# Altium footprint library Con Rect Stag PCB.PcbLib: 59 footprints (part 4 of 4)
Each footprint in its own frame and in the unit in brackets; x right, y up, seen from the top. Pads: shape width x height; smd on the part's side, far side on the other; paste and mask are expansions set on the pad; w line width, h text height; cw(c..) or ccw(c..) is an arc to the next point about the centre after c.
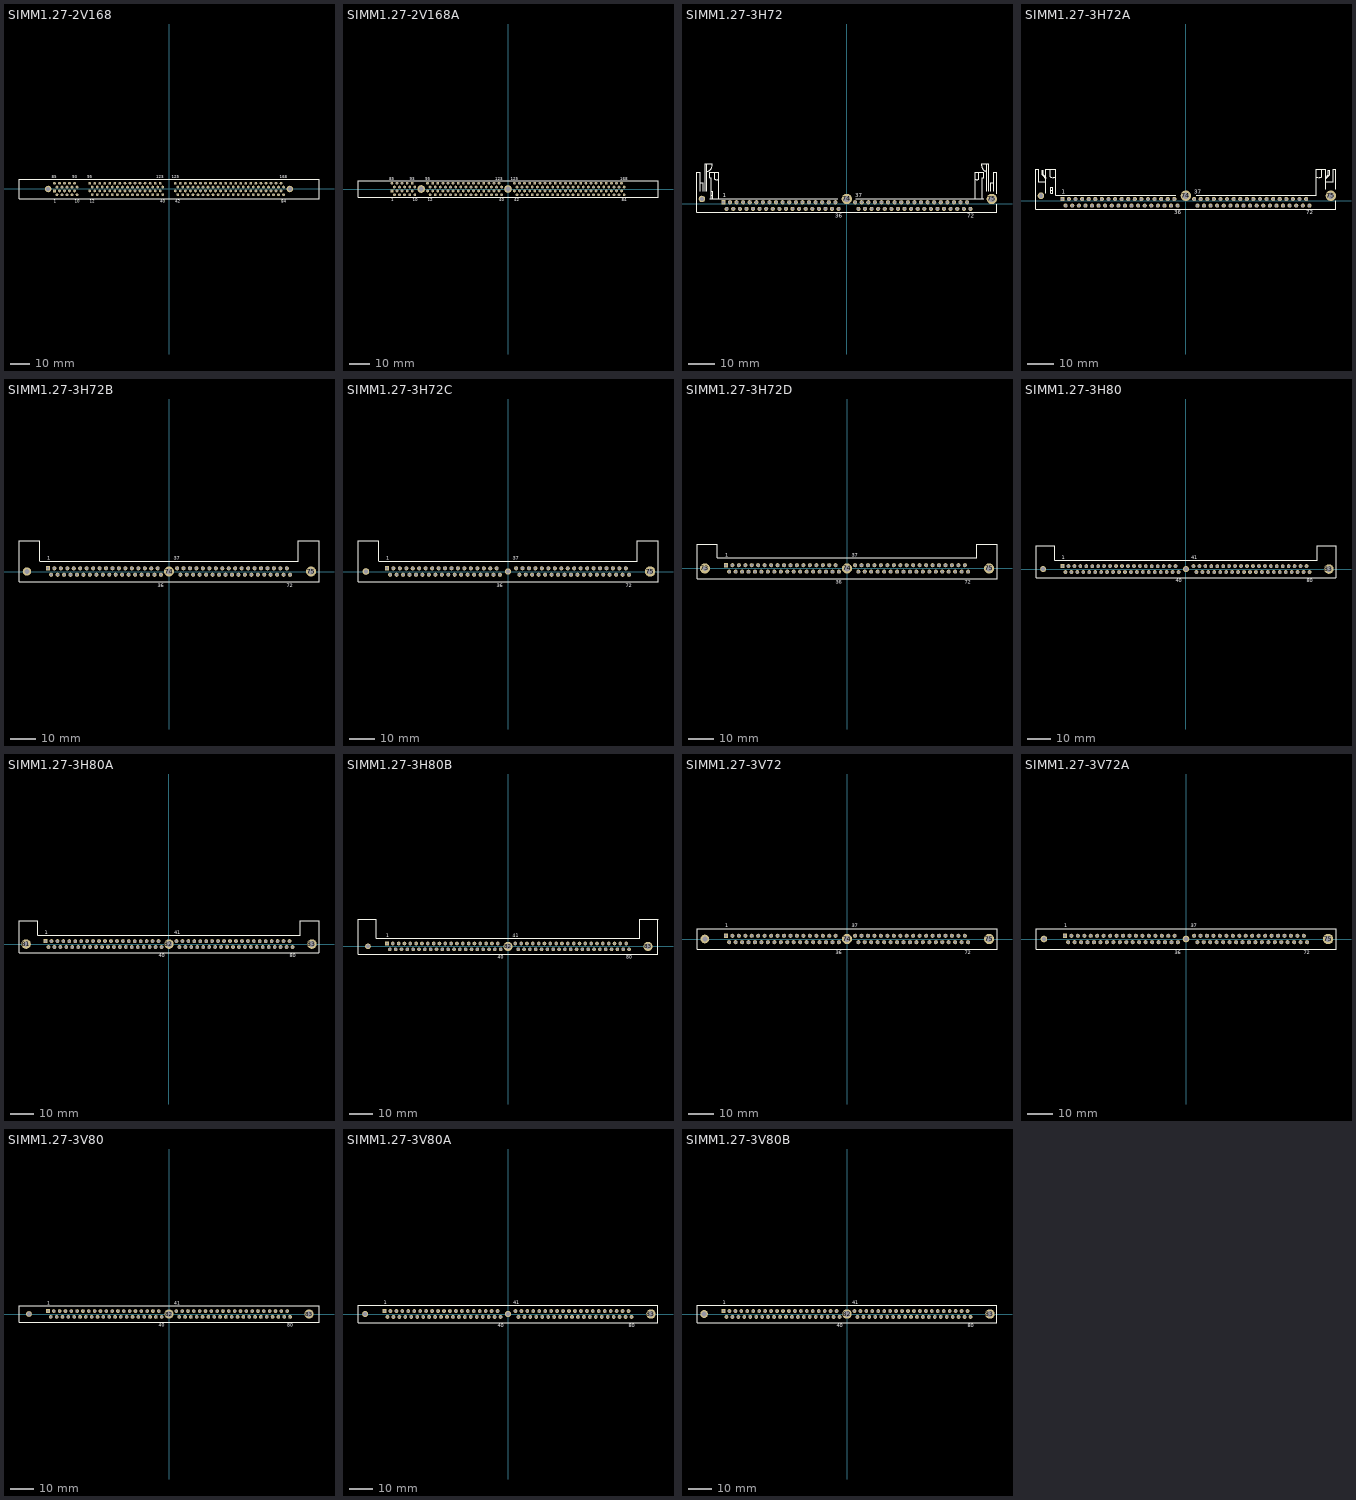
[diagram p3: the footprints below, top view; thin cyan lines are the x and y axes]

## SIMM1.27-2V168 [mm] "Connector; SIMM II; 168 Position; Vertical"
height 22.61
pads (170):
  rect 1.4x1.4 hole 0.78: 1(-57.785,-0.955)
  round 1.4 hole 0.78: 2(-56.515,-2.865) 3(-55.245,-0.955) 4(-53.975,-2.865) 5(-52.705,-0.955) 6(-51.435,-2.865) 7(-50.165,-0.955) 8(-48.895,-2.865) 9(-47.625,-0.955) 10(-46.355,-2.865) 11(-40.005,-0.955) 12(-38.735,-2.865) 13(-37.465,-0.955) 14(-36.195,-2.865) 15(-34.925,-0.955) 16(-33.655,-2.865) 17(-32.385,-0.955) 18(-31.115,-2.865) 19(-29.845,-0.955) 20(-28.575,-2.865) 21(-27.305,-0.955) 22(-26.035,-2.865) 23(-24.765,-0.955) 24(-23.495,-2.865) 25(-22.225,-0.955) 26(-20.955,-2.865) 27(-19.685,-0.955) 28(-18.415,-2.865) 29(-17.145,-0.955) 30(-15.875,-2.865) 31(-14.605,-0.955) 32(-13.335,-2.865) 33(-12.065,-0.955) 34(-10.795,-2.865) 35(-9.525,-0.955) 36(-8.255,-2.865) 37(-6.985,-0.955) 38(-5.715,-2.865) 39(-4.445,-0.955) 40(-3.175,-2.865) 41(3.175,-0.955) 42(4.445,-2.865) 43(5.715,-0.955) 44(6.985,-2.865) 45(8.255,-0.955) 46(9.525,-2.865) 47(10.795,-0.955) 48(12.065,-2.865) 49(13.335,-0.955) 50(14.605,-2.865) 51(15.875,-0.955) 52(17.145,-2.865) 53(18.415,-0.955) 54(19.685,-2.865) 55(20.955,-0.955) 56(22.225,-2.865) 57(23.495,-0.955) 58(24.765,-2.865) 59(26.035,-0.955) 60(27.305,-2.865) 61(28.575,-0.955) 62(29.845,-2.865) 63(31.115,-0.955) 64(32.385,-2.865) 65(33.655,-0.955) 66(34.925,-2.865) 67(36.195,-0.955) 68(37.465,-2.865) 69(38.735,-0.955) 70(40.005,-2.865) 71(41.275,-0.955) 72(42.545,-2.865) 73(43.815,-0.955) 74(45.085,-2.865) 75(46.355,-0.955) 76(47.625,-2.865) 77(48.895,-0.955) 78(50.165,-2.865) 79(51.435,-0.955) 80(52.705,-2.865) 81(53.975,-0.955) 82(55.245,-2.865) 83(56.515,-0.955) 84(57.785,-2.865) 85(-57.785,2.865) 86(-56.515,0.955) 87(-55.245,2.865) 88(-53.975,0.955) 89(-52.705,2.865) 90(-51.435,0.955) 91(-50.165,2.865) 92(-48.895,0.955) 93(-47.625,2.865) 94(-46.355,0.955) 95(-40.005,2.865) 96(-38.735,0.955) 97(-37.465,2.865) 98(-36.195,0.955) 99(-34.925,2.865) 100(-33.655,0.955) 101(-32.385,2.865) 102(-31.115,0.955) 103(-29.845,2.865) 104(-28.575,0.955) 105(-27.305,2.865) 106(-26.035,0.955) 107(-24.765,2.865) 108(-23.495,0.955) 109(-22.225,2.865) 110(-20.955,0.955) 111(-19.685,2.865) 112(-18.415,0.955) 113(-17.145,2.865) 114(-15.875,0.955) 115(-14.605,2.865) 116(-13.335,0.955) 117(-12.065,2.865) 118(-10.795,0.955) 119(-9.525,2.865) 120(-8.255,0.955) 121(-6.985,2.865) 122(-5.715,0.955) 123(-4.445,2.865) 124(-3.175,0.955) 125(3.175,2.865) 126(4.445,0.955) 127(5.715,2.865) 128(6.985,0.955) 129(8.255,2.865) 130(9.525,0.955) 131(10.795,2.865) 132(12.065,0.955) 133(13.335,2.865) 134(14.605,0.955) 135(15.875,2.865) 136(17.145,0.955) 137(18.415,2.865) 138(19.685,0.955) 139(20.955,2.865) 140(22.225,0.955) 141(23.495,2.865) 142(24.765,0.955) 143(26.035,2.865) 144(27.305,0.955) 145(28.575,2.865) 146(29.845,0.955) 147(31.115,2.865) 148(32.385,0.955) 149(33.655,2.865) 150(34.925,0.955) 151(36.195,2.865) 152(37.465,0.955) 153(38.735,2.865) 154(40.005,0.955) 155(41.275,2.865) 156(42.545,0.955) 157(43.815,2.865) 158(45.085,0.955) 159(46.355,2.865) 160(47.625,0.955) 161(48.895,2.865) 162(50.165,0.955) 163(51.435,2.865) 164(52.705,0.955) 165(53.975,2.865) 166(55.245,0.955) 167(56.515,2.865) 168(57.785,0.955)
  round 3.3 hole 2.03: 169(-60.955,-0.005) 170(60.955,-0.005)
Top Overlay:
  lines w0.2: -75.65,-5.005 -75.65,4.995 75.65,4.995 75.65,-5.005 -75.65,-5.005
  text "1" at -58.035,-6.98 h1.5
  text "85" at -59.035,5.47 h1.5
  text "10" at -47.48,-6.98 h1.5
  text "12" at -39.86,-6.98 h1.5
  text "95" at -41.255,5.47 h1.5
  text "40" at -4.425,-6.98 h1.5
  text "123" at -6.32,5.47 h1.5
  text "42" at 3.195,-6.98 h1.5
  text "125" at 1.3,5.47 h1.5
  text "84" at 56.535,-6.98 h1.5
  text "168" at 55.91,5.47 h1.5
  text "93" at -48.875,5.47 h1.5

## SIMM1.27-2V168A [mm] "Connector; SIMM II; 168 Position; Vertical"
height 12.78
pads (170):
  rect 1.4x1.4 hole 0.81: 1(-57.785,-0.955)
  round 1.4 hole 0.81: 2(-56.515,-2.865) 3(-55.245,-0.955) 4(-53.975,-2.865) 5(-52.705,-0.955) 6(-51.435,-2.865) 7(-50.165,-0.955) 8(-48.895,-2.865) 9(-47.625,-0.955) 10(-46.355,-2.865) 11(-40.005,-0.955) 12(-38.735,-2.865) 13(-37.465,-0.955) 14(-36.195,-2.865) 15(-34.925,-0.955) 16(-33.655,-2.865) 17(-32.385,-0.955) 18(-31.115,-2.865) 19(-29.845,-0.955) 20(-28.575,-2.865) 21(-27.305,-0.955) 22(-26.035,-2.865) 23(-24.765,-0.955) 24(-23.495,-2.865) 25(-22.225,-0.955) 26(-20.955,-2.865) 27(-19.685,-0.955) 28(-18.415,-2.865) 29(-17.145,-0.955) 30(-15.875,-2.865) 31(-14.605,-0.955) 32(-13.335,-2.865) 33(-12.065,-0.955) 34(-10.795,-2.865) 35(-9.525,-0.955) 36(-8.255,-2.865) 37(-6.985,-0.955) 38(-5.715,-2.865) 39(-4.445,-0.955) 40(-3.175,-2.865) 41(3.175,-0.955) 42(4.445,-2.865) 43(5.715,-0.955) 44(6.985,-2.865) 45(8.255,-0.955) 46(9.525,-2.865) 47(10.795,-0.955) 48(12.065,-2.865) 49(13.335,-0.955) 50(14.605,-2.865) 51(15.875,-0.955) 52(17.145,-2.865) 53(18.415,-0.955) 54(19.685,-2.865) 55(20.955,-0.955) 56(22.225,-2.865) 57(23.495,-0.955) 58(24.765,-2.865) 59(26.035,-0.955) 60(27.305,-2.865) 61(28.575,-0.955) 62(29.845,-2.865) 63(31.115,-0.955) 64(32.385,-2.865) 65(33.655,-0.955) 66(34.925,-2.865) 67(36.195,-0.955) 68(37.465,-2.865) 69(38.735,-0.955) 70(40.005,-2.865) 71(41.275,-0.955) 72(42.545,-2.865) 73(43.815,-0.955) 74(45.085,-2.865) 75(46.355,-0.955) 76(47.625,-2.865) 77(48.895,-0.955) 78(50.165,-2.865) 79(51.435,-0.955) 80(52.705,-2.865) 81(53.975,-0.955) 82(55.245,-2.865) 83(56.515,-0.955) 84(57.785,-2.865) 85(-57.785,2.865) 86(-56.515,0.955) 87(-55.245,2.865) 88(-53.975,0.955) 89(-52.705,2.865) 90(-51.435,0.955) 91(-50.165,2.865) 92(-48.895,0.955) 93(-47.625,2.865) 94(-46.355,0.955) 95(-40.005,2.865) 96(-38.735,0.955) 97(-37.465,2.865) 98(-36.195,0.955) 99(-34.925,2.865) 100(-33.655,0.955) 101(-32.385,2.865) 102(-31.115,0.955) 103(-29.845,2.865) 104(-28.575,0.955) 105(-27.305,2.865) 106(-26.035,0.955) 107(-24.765,2.865) 108(-23.495,0.955) 109(-22.225,2.865) 110(-20.955,0.955) 111(-19.685,2.865) 112(-18.415,0.955) 113(-17.145,2.865) 114(-15.875,0.955) 115(-14.605,2.865) 116(-13.335,0.955) 117(-12.065,2.865) 118(-10.795,0.955) 119(-9.525,2.865) 120(-8.255,0.955) 121(-6.985,2.865) 122(-5.715,0.955) 123(-4.445,2.865) 124(-3.175,0.955) 125(3.175,2.865) 126(4.445,0.955) 127(5.715,2.865) 128(6.985,0.955) 129(8.255,2.865) 130(9.525,0.955) 131(10.795,2.865) 132(12.065,0.955) 133(13.335,2.865) 134(14.605,0.955) 135(15.875,2.865) 136(17.145,0.955) 137(18.415,2.865) 138(19.685,0.955) 139(20.955,2.865) 140(22.225,0.955) 141(23.495,2.865) 142(24.765,0.955) 143(26.035,2.865) 144(27.305,0.955) 145(28.575,2.865) 146(29.845,0.955) 147(31.115,2.865) 148(32.385,0.955) 149(33.655,2.865) 150(34.925,0.955) 151(36.195,2.865) 152(37.465,0.955) 153(38.735,2.865) 154(40.005,0.955) 155(41.275,2.865) 156(42.545,0.955) 157(43.815,2.865) 158(45.085,0.955) 159(46.355,2.865) 160(47.625,0.955) 161(48.895,2.865) 162(50.165,0.955) 163(51.435,2.865) 164(52.705,0.955) 165(53.975,2.865) 166(55.245,0.955) 167(56.515,2.865) 168(57.785,0.955)
  round 3.8 hole 2.36: 169(-43.18,0) 170(0,0)
Top Overlay:
  lines w0.2: -74.625,-4 -74.625,4 74.625,4 74.625,-4 -74.625,-4
  text "1" at -58.035,-5.975 h1.5
  text "85" at -59.035,4.475 h1.5
  text "10" at -47.48,-5.975 h1.5
  text "93" at -48.875,4.475 h1.5
  text "12" at -39.86,-5.975 h1.5
  text "95" at -41.255,4.475 h1.5
  text "40" at -4.425,-5.975 h1.5
  text "123" at -6.32,4.475 h1.5
  text "125" at 1.3,4.475 h1.5
  text "42" at 3.195,-5.975 h1.5
  text "84" at 56.535,-5.975 h1.5
  text "168" at 55.91,4.475 h1.5

## SIMM1.27-3H72 [mm] "Connector; SIMM II; 72 Position; Right Angle"
height 8.39
pads (75):
  rect 1.6x1.6 hole 0.99: 1(-47.62,0.635)
  round 1.6 hole 0.99: 2(-46.35,-1.905) 3(-45.08,0.635) 4(-43.81,-1.905) 5(-42.54,0.635) 6(-41.27,-1.905) 7(-40,0.635) 8(-38.73,-1.905) 9(-37.46,0.635) 10(-36.19,-1.905) 11(-34.92,0.635) 12(-33.65,-1.905) 13(-32.38,0.635) 14(-31.11,-1.905) 15(-29.84,0.635) 16(-28.57,-1.905) 17(-27.3,0.635) 18(-26.03,-1.905) 19(-24.76,0.635) 20(-23.49,-1.905) 21(-22.22,0.635) 22(-20.95,-1.905) 23(-19.68,0.635) 24(-18.41,-1.905) 25(-17.14,0.635) 26(-15.87,-1.905) 27(-14.6,0.635) 28(-13.33,-1.905) 29(-12.06,0.635) 30(-10.79,-1.905) 31(-9.52,0.635) 32(-8.25,-1.905) 33(-6.98,0.635) 34(-5.71,-1.905) 35(-4.44,0.635) 36(-3.17,-1.905) 37(3.18,0.635) 38(4.45,-1.905) 39(5.72,0.635) 40(6.99,-1.905) 41(8.26,0.635) 42(9.53,-1.905) 43(10.8,0.635) 44(12.07,-1.905) 45(13.34,0.635) 46(14.61,-1.905) 47(15.88,0.635) 48(17.15,-1.905) 49(18.42,0.635) 50(19.69,-1.905) 51(20.96,0.635) 52(22.23,-1.905) 53(23.5,0.635) 54(24.77,-1.905) 55(26.04,0.635) 56(27.31,-1.905) 57(28.58,0.635) 58(29.85,-1.905) 59(31.12,0.635) 60(32.39,-1.905) 61(33.66,0.635) 62(34.93,-1.905) 63(36.2,0.635) 64(37.47,-1.905) 65(38.74,0.635) 66(40.01,-1.905) 67(41.28,0.635) 68(42.55,-1.905) 69(43.82,0.635) 70(45.09,-1.905) 71(46.36,0.635) 72(47.63,-1.905)
  round 2.5 hole 1.58: 73(-55.88,1.905)
  round 4 hole 2.44: 74(0,1.905) 75(55.88,1.905)
Top Overlay:
  lines w0.2: -56.585,4.815 -56.585,12.115 -57.785,12.115 -57.785,-3.305 57.785,-3.305 57.785,-0.215 ; -56.585,8.115 -55.385,8.115 -55.385,4.815 ; -54.685,4.815 -54.685,15.475 -51.985,15.475 -51.985,14.675 ; -53.985,4.815 -53.985,15.475 ; -53.985,12.575 ccw(c-54.085,14.675) -51.983,14.675 ; -52.785,2.035 -3.5,2.035 ; -52.285,2.035 -52.285,10.175 -52.785,10.175 -52.785,12.115 -49.485,12.115 -49.485,2.035 ; -52.285,3.415 -51.785,3.415 ; -52.285,4.815 -51.785,4.815 -51.785,2.035 ; -50.885,12.115 -50.885,9.515 ccw(c-50.185,10.915) -49.485,9.515 ; 3.5,2.035 52.785,2.035 ; 49.485,2.035 49.485,12.115 52.785,12.115 52.785,10.175 52.285,10.175 52.285,2.035 ; 49.485,9.515 ccw(c50.185,10.915) 50.885,9.515 50.885,12.115 ; 51.983,14.675 ccw(c54.085,14.675) 53.985,12.575 ; 51.985,14.675 51.985,15.475 54.685,15.475 54.685,4.815 ; 53.985,4.815 53.985,15.475 ; 55.385,4.815 55.385,8.115 56.585,8.115 ; 56.585,4.815 56.585,12.115 57.785,12.115 57.785,4
  text "1" at -47.87,2.51 h1.5
  text "37" at 3.18,2.51 h1.5
  text "72" at 46.38,-5.28 h1.5
  text "36" at -4.42,-5.28 h1.5

## SIMM1.27-3H72A [mm] "Connector; SIMM II; 72 Position; Right Angle"
height 9.27
pads (75):
  rect 1.6x1.6 hole 0.99: 1(-47.625,0.635)
  round 1.6 hole 0.99: 2(-46.355,-1.905) 3(-45.085,0.635) 4(-43.815,-1.905) 5(-42.545,0.635) 6(-41.275,-1.905) 7(-40.005,0.635) 8(-38.735,-1.905) 9(-37.465,0.635) 10(-36.195,-1.905) 11(-34.925,0.635) 12(-33.655,-1.905) 13(-32.385,0.635) 14(-31.115,-1.905) 15(-29.845,0.635) 16(-28.575,-1.905) 17(-27.305,0.635) 18(-26.035,-1.905) 19(-24.765,0.635) 20(-23.495,-1.905) 21(-22.225,0.635) 22(-20.955,-1.905) 23(-19.685,0.635) 24(-18.415,-1.905) 25(-17.145,0.635) 26(-15.875,-1.905) 27(-14.605,0.635) 28(-13.335,-1.905) 29(-12.065,0.635) 30(-10.795,-1.905) 31(-9.525,0.635) 32(-8.255,-1.905) 33(-6.985,0.635) 34(-5.715,-1.905) 35(-4.445,0.635) 36(-3.175,-1.905) 37(3.175,0.635) 38(4.445,-1.905) 39(5.715,0.635) 40(6.985,-1.905) 41(8.255,0.635) 42(9.525,-1.905) 43(10.795,0.635) 44(12.065,-1.905) 45(13.335,0.635) 46(14.605,-1.905) 47(15.875,0.635) 48(17.145,-1.905) 49(18.415,0.635) 50(19.685,-1.905) 51(20.955,0.635) 52(22.225,-1.905) 53(23.495,0.635) 54(24.765,-1.905) 55(26.035,0.635) 56(27.305,-1.905) 57(28.575,0.635) 58(29.845,-1.905) 59(31.115,0.635) 60(32.385,-1.905) 61(33.655,0.635) 62(34.925,-1.905) 63(36.195,0.635) 64(37.465,-1.905) 65(38.735,0.635) 66(40.005,-1.905) 67(41.275,0.635) 68(42.545,-1.905) 69(43.815,0.635) 70(45.085,-1.905) 71(46.355,0.635) 72(47.625,-1.905)
  round 2.5 hole 1.58: 73(-55.88,1.905)
  round 4 hole 2.44: 74(0,1.905) 75(55.88,1.905)
Top Overlay:
  lines w0.2: -56.785,7.195 -56.785,12.115 -57.785,12.115 -57.785,-3.305 57.785,-3.305 57.785,-0.01 ; -56.765,7.215 -53.985,7.215 ; -53.985,2.92 -53.985,7.215 ; -53.985,8.515 -55.385,9.915 -55.385,11.815 -54.985,11.815 -54.985,9.915 -53.985,8.915 ; -52.385,12.115 -52.385,9.215 ccw(c-51.185,11.615) -50.153,9.138 ; -52.1,4.105 -51.4,4.105 ; -4,2.115 -50.185,2.115 -50.185,12.115 -53.985,12.115 -53.985,7.215 ; 4,2.115 50.185,2.115 50.185,12.115 53.985,12.115 53.985,7.215 ; 50.153,9.138 ccw(c51.185,11.615) 52.385,9.215 52.385,12.115 ; 53.985,4.405 53.985,7.215 ; 53.985,8.515 55.385,9.915 55.385,11.815 54.985,11.815 54.985,9.915 53.985,8.915 ; 56.765,7.215 53.985,7.215 ; 56.785,7.195 56.785,12.115 57.785,12.115 57.785,4.405 ; -52.1,2.905 -52.1,5.205 -51.4,5.205 -51.4,2.905 -52.1,2.905
  text "37" at 3.175,2.59 h1.5
  text "1" at -47.875,2.59 h1.5
  text "36" at -4.425,-5.28 h1.5
  text "72" at 46.375,-5.28 h1.5

## SIMM1.27-3H72B [mm] "Connector; SIMM; 72 Position; Orientation 30°"
height 9.2
pads (75):
  rect 1.6x1.6 hole 1: 1(-47.625,1.27)
  round 1.6 hole 1: 2(-46.355,-1.27) 3(-45.085,1.27) 4(-43.815,-1.27) 5(-42.545,1.27) 6(-41.275,-1.27) 7(-40.005,1.27) 8(-38.735,-1.27) 9(-37.465,1.27) 10(-36.195,-1.27) 11(-34.925,1.27) 12(-33.655,-1.27) 13(-32.385,1.27) 14(-31.115,-1.27) 15(-29.845,1.27) 16(-28.575,-1.27) 17(-27.305,1.27) 18(-26.035,-1.27) 19(-24.765,1.27) 20(-23.495,-1.27) 21(-22.225,1.27) 22(-20.955,-1.27) 23(-19.685,1.27) 24(-18.415,-1.27) 25(-17.145,1.27) 26(-15.875,-1.27) 27(-14.605,1.27) 28(-13.335,-1.27) 29(-12.065,1.27) 30(-10.795,-1.27) 31(-9.525,1.27) 32(-8.255,-1.27) 33(-6.985,1.27) 34(-5.715,-1.27) 35(-4.445,1.27) 36(-3.175,-1.27) 37(3.175,1.27) 38(4.445,-1.27) 39(5.715,1.27) 40(6.985,-1.27) 41(8.255,1.27) 42(9.525,-1.27) 43(10.795,1.27) 44(12.065,-1.27) 45(13.335,1.27) 46(14.605,-1.27) 47(15.875,1.27) 48(17.145,-1.27) 49(18.415,1.27) 50(19.685,-1.27) 51(20.955,1.27) 52(22.225,-1.27) 53(23.495,1.27) 54(24.765,-1.27) 55(26.035,1.27) 56(27.305,-1.27) 57(28.575,1.27) 58(29.845,-1.27) 59(31.115,1.27) 60(32.385,-1.27) 61(33.655,1.27) 62(34.925,-1.27) 63(36.195,1.27) 64(37.465,-1.27) 65(38.735,1.27) 66(40.005,-1.27) 67(41.275,1.27) 68(42.545,-1.27) 69(43.815,1.27) 70(45.085,-1.27) 71(46.355,1.27) 72(47.625,-1.27)
  round 3.3 hole 2: 73(-55.88,0)
  round 4 hole 2.4: 74(0,0) 75(55.88,0)
Top Overlay:
  lines w0.2: -59,12 -59,-4.12 59,-4.12 59,12 ; -50.8,4.12 50.8,4.12
  lines w0.254: -59,12 -50.8,12 -50.8,4.22 ; 50.8,4.22 50.8,12 59,12
  text "72" at 46.375,-6.095 h1.5
  text "37" at 1.925,4.595 h1.5
  text "36" at -4.425,-6.095 h1.5
  text "1" at -47.875,4.595 h1.5

## SIMM1.27-3H72C [mm] "Connector; SIMM; 72 Position; Orientation 25°"
height 10
pads (75):
  rect 1.6x1.6 hole 1.02: 1(-47.625,1.27)
  round 1.6 hole 1.02: 2(-46.355,-1.27) 3(-45.085,1.27) 4(-43.815,-1.27) 5(-42.545,1.27) 6(-41.275,-1.27) 7(-40.005,1.27) 8(-38.735,-1.27) 9(-37.465,1.27) 10(-36.195,-1.27) 11(-34.925,1.27) 12(-33.655,-1.27) 13(-32.385,1.27) 14(-31.115,-1.27) 15(-29.845,1.27) 16(-28.575,-1.27) 17(-27.305,1.27) 18(-26.035,-1.27) 19(-24.765,1.27) 20(-23.495,-1.27) 21(-22.225,1.27) 22(-20.955,-1.27) 23(-19.685,1.27) 24(-18.415,-1.27) 25(-17.145,1.27) 26(-15.875,-1.27) 27(-14.605,1.27) 28(-13.335,-1.27) 29(-12.065,1.27) 30(-10.795,-1.27) 31(-9.525,1.27) 32(-8.255,-1.27) 33(-6.985,1.27) 34(-5.715,-1.27) 35(-4.445,1.27) 36(-3.175,-1.27) 37(3.175,1.27) 38(4.445,-1.27) 39(5.715,1.27) 40(6.985,-1.27) 41(8.255,1.27) 42(9.525,-1.27) 43(10.795,1.27) 44(12.065,-1.27) 45(13.335,1.27) 46(14.605,-1.27) 47(15.875,1.27) 48(17.145,-1.27) 49(18.415,1.27) 50(19.685,-1.27) 51(20.955,1.27) 52(22.225,-1.27) 53(23.495,1.27) 54(24.765,-1.27) 55(26.035,1.27) 56(27.305,-1.27) 57(28.575,1.27) 58(29.845,-1.27) 59(31.115,1.27) 60(32.385,-1.27) 61(33.655,1.27) 62(34.925,-1.27) 63(36.195,1.27) 64(37.465,-1.27) 65(38.735,1.27) 66(40.005,-1.27) 67(41.275,1.27) 68(42.545,-1.27) 69(43.815,1.27) 70(45.085,-1.27) 71(46.355,1.27) 72(47.625,-1.27)
  round 2.6 hole 1.63: 73(-55.88,0)
  round 2.4 hole 1.63: 74(0,0)
  round 4.1 hole 2.44: 75(55.88,0)
Top Overlay:
  lines w0.2: -59,12 -59,-4.12 59,-4.12 59,12 ; -50.8,4.12 50.8,4.12
  lines w0.254: -59,12 -50.8,12 -50.8,4.22 ; 50.8,4.22 50.8,12 59,12
  text "1" at -47.875,4.595 h1.5
  text "36" at -4.425,-6.095 h1.5
  text "37" at 1.925,4.595 h1.5
  text "72" at 46.375,-6.095 h1.5

## SIMM1.27-3H72D [mm] "Connector; SIMM; 72 Position; Orientation 22°"
height 12.7
pads (75):
  rect 1.6x1.6 hole 1.02: 1(-47.625,1.27)
  round 1.6 hole 1.02: 2(-46.355,-1.27) 3(-45.085,1.27) 4(-43.815,-1.27) 5(-42.545,1.27) 6(-41.275,-1.27) 7(-40.005,1.27) 8(-38.735,-1.27) 9(-37.465,1.27) 10(-36.195,-1.27) 11(-34.925,1.27) 12(-33.655,-1.27) 13(-32.385,1.27) 14(-31.115,-1.27) 15(-29.845,1.27) 16(-28.575,-1.27) 17(-27.305,1.27) 18(-26.035,-1.27) 19(-24.765,1.27) 20(-23.495,-1.27) 21(-22.225,1.27) 22(-20.955,-1.27) 23(-19.685,1.27) 24(-18.415,-1.27) 25(-17.145,1.27) 26(-15.875,-1.27) 27(-14.605,1.27) 28(-13.335,-1.27) 29(-12.065,1.27) 30(-10.795,-1.27) 31(-9.525,1.27) 32(-8.255,-1.27) 33(-6.985,1.27) 34(-5.715,-1.27) 35(-4.445,1.27) 36(-3.175,-1.27) 37(3.175,1.27) 38(4.445,-1.27) 39(5.715,1.27) 40(6.985,-1.27) 41(8.255,1.27) 42(9.525,-1.27) 43(10.795,1.27) 44(12.065,-1.27) 45(13.335,1.27) 46(14.605,-1.27) 47(15.875,1.27) 48(17.145,-1.27) 49(18.415,1.27) 50(19.685,-1.27) 51(20.955,1.27) 52(22.225,-1.27) 53(23.495,1.27) 54(24.765,-1.27) 55(26.035,1.27) 56(27.305,-1.27) 57(28.575,1.27) 58(29.845,-1.27) 59(31.115,1.27) 60(32.385,-1.27) 61(33.655,1.27) 62(34.925,-1.27) 63(36.195,1.27) 64(37.465,-1.27) 65(38.735,1.27) 66(40.005,-1.27) 67(41.275,1.27) 68(42.545,-1.27) 69(43.815,1.27) 70(45.085,-1.27) 71(46.355,1.27) 72(47.625,-1.27)
  round 4.04 hole 2.03: 73(-55.88,0)
  round 4.04 hole 2.44: 74(0,0) 75(55.88,0)
Top Overlay:
  lines w0.2: 50.97,4.12 -50.97,4.12 -50.97,9.6 -59,9.6 -59,-4.12 59,-4.12 59,9.6 50.97,9.6 50.97,4.218
  text "72" at 46.375,-6.095 h1.5
  text "37" at 1.925,4.595 h1.5
  text "36" at -4.425,-6.095 h1.5
  text "1" at -47.875,4.595 h1.5

## SIMM1.27-3H80 [mm] "Connector; SIMM; 80 Position; Orientation 22°"
height 12.7
pads (83):
  rect 1.62x1.62 hole 1.02: 1(-52.705,1.27)
  round 1.62 hole 1.02: 2(-51.435,-1.27) 3(-50.165,1.27) 4(-48.895,-1.27) 5(-47.625,1.27) 6(-46.355,-1.27) 7(-45.085,1.27) 8(-43.815,-1.27) 9(-42.545,1.27) 10(-41.275,-1.27) 11(-40.005,1.27) 12(-38.735,-1.27) 13(-37.465,1.27) 14(-36.195,-1.27) 15(-34.925,1.27) 16(-33.655,-1.27) 17(-32.385,1.27) 18(-31.115,-1.27) 19(-29.845,1.27) 20(-28.575,-1.27) 21(-27.305,1.27) 22(-26.035,-1.27) 23(-24.765,1.27) 24(-23.495,-1.27) 25(-22.225,1.27) 26(-20.955,-1.27) 27(-19.685,1.27) 28(-18.415,-1.27) 29(-17.145,1.27) 30(-15.875,-1.27) 31(-14.605,1.27) 32(-13.335,-1.27) 33(-12.065,1.27) 34(-10.795,-1.27) 35(-9.525,1.27) 36(-8.255,-1.27) 37(-6.985,1.27) 38(-5.715,-1.27) 39(-4.445,1.27) 40(-3.175,-1.27) 41(3.175,1.27) 42(4.445,-1.27) 43(5.715,1.27) 44(6.985,-1.27) 45(8.255,1.27) 46(9.525,-1.27) 47(10.795,1.27) 48(12.065,-1.27) 49(13.335,1.27) 50(14.605,-1.27) 51(15.875,1.27) 52(17.145,-1.27) 53(18.415,1.27) 54(19.685,-1.27) 55(20.955,1.27) 56(22.225,-1.27) 57(23.495,1.27) 58(24.765,-1.27) 59(26.035,1.27) 60(27.305,-1.27) 61(28.575,1.27) 62(29.845,-1.27) 63(31.115,1.27) 64(32.385,-1.27) 65(33.655,1.27) 66(34.925,-1.27) 67(36.195,1.27) 68(37.465,-1.27) 69(38.735,1.27) 70(40.005,-1.27) 71(41.275,1.27) 72(42.545,-1.27) 73(43.815,1.27) 74(45.085,-1.27) 75(46.355,1.27) 76(47.625,-1.27) 77(48.895,1.27) 78(50.165,-1.27) 79(51.435,1.27) 80(52.705,-1.27)
  round 2.53 hole 1.63: 81(-60.96,0) 82(0,0)
  round 4.04 hole 2.44: 83(60.96,0)
Top Overlay:
  lines w0.2: -55.97,3.7 55.97,3.7 ; -55.97,3.798 -55.97,10.02 -64,10.02 -64,-3.7 64,-3.7 64,10.02 55.97,10.02 55.97,3.798
  text "1" at -52.955,4.175 h1.5
  text "40" at -4.425,-5.675 h1.5
  text "41" at 2.175,4.175 h1.5
  text "80" at 51.455,-5.675 h1.5

## SIMM1.27-3H80A [mm] "Connector; SIMM; 80 Position; Orientation 22°"
height 12.7
pads (83):
  rect 1.62x1.62 hole 1.02: 1(-52.705,1.27)
  round 1.62 hole 1.02: 2(-51.435,-1.27) 3(-50.165,1.27) 4(-48.895,-1.27) 5(-47.625,1.27) 6(-46.355,-1.27) 7(-45.085,1.27) 8(-43.815,-1.27) 9(-42.545,1.27) 10(-41.275,-1.27) 11(-40.005,1.27) 12(-38.735,-1.27) 13(-37.465,1.27) 14(-36.195,-1.27) 15(-34.925,1.27) 16(-33.655,-1.27) 17(-32.385,1.27) 18(-31.115,-1.27) 19(-29.845,1.27) 20(-28.575,-1.27) 21(-27.305,1.27) 22(-26.035,-1.27) 23(-24.765,1.27) 24(-23.495,-1.27) 25(-22.225,1.27) 26(-20.955,-1.27) 27(-19.685,1.27) 28(-18.415,-1.27) 29(-17.145,1.27) 30(-15.875,-1.27) 31(-14.605,1.27) 32(-13.335,-1.27) 33(-12.065,1.27) 34(-10.795,-1.27) 35(-9.525,1.27) 36(-8.255,-1.27) 37(-6.985,1.27) 38(-5.715,-1.27) 39(-4.445,1.27) 40(-3.175,-1.27) 41(3.175,1.27) 42(4.445,-1.27) 43(5.715,1.27) 44(6.985,-1.27) 45(8.255,1.27) 46(9.525,-1.27) 47(10.795,1.27) 48(12.065,-1.27) 49(13.335,1.27) 50(14.605,-1.27) 51(15.875,1.27) 52(17.145,-1.27) 53(18.415,1.27) 54(19.685,-1.27) 55(20.955,1.27) 56(22.225,-1.27) 57(23.495,1.27) 58(24.765,-1.27) 59(26.035,1.27) 60(27.305,-1.27) 61(28.575,1.27) 62(29.845,-1.27) 63(31.115,1.27) 64(32.385,-1.27) 65(33.655,1.27) 66(34.925,-1.27) 67(36.195,1.27) 68(37.465,-1.27) 69(38.735,1.27) 70(40.005,-1.27) 71(41.275,1.27) 72(42.545,-1.27) 73(43.815,1.27) 74(45.085,-1.27) 75(46.355,1.27) 76(47.625,-1.27) 77(48.895,1.27) 78(50.165,-1.27) 79(51.435,1.27) 80(52.705,-1.27)
  round 4.04 hole 2.03: 81(-60.96,0)
  round 4.04 hole 2.44: 82(0,0) 83(60.96,0)
Top Overlay:
  lines w0.2: -55.97,3.7 55.97,3.7 ; -55.97,3.798 -55.97,10.02 -64,10.02 -64,-3.7 64,-3.7 64,10.02 55.97,10.02 55.97,3.798
  text "80" at 51.455,-5.675 h1.5
  text "41" at 2.175,4.175 h1.5
  text "40" at -4.425,-5.675 h1.5
  text "1" at -52.955,4.175 h1.5

## SIMM1.27-3H80B [mm] "Connector; SIMM II; 80 Position; Right Angle"
height 11.56
pads (83):
  rect 1.6x1.6 hole 0.99: 1(-52.705,1.27)
  round 1.6 hole 0.99: 2(-51.435,-1.27) 3(-50.165,1.27) 4(-48.895,-1.27) 5(-47.625,1.27) 6(-46.355,-1.27) 7(-45.085,1.27) 8(-43.815,-1.27) 9(-42.545,1.27) 10(-41.275,-1.27) 11(-40.005,1.27) 12(-38.735,-1.27) 13(-37.465,1.27) 14(-36.195,-1.27) 15(-34.925,1.27) 16(-33.655,-1.27) 17(-32.385,1.27) 18(-31.115,-1.27) 19(-29.845,1.27) 20(-28.575,-1.27) 21(-27.305,1.27) 22(-26.035,-1.27) 23(-24.765,1.27) 24(-23.495,-1.27) 25(-22.225,1.27) 26(-20.955,-1.27) 27(-19.685,1.27) 28(-18.415,-1.27) 29(-17.145,1.27) 30(-15.875,-1.27) 31(-14.605,1.27) 32(-13.335,-1.27) 33(-12.065,1.27) 34(-10.795,-1.27) 35(-9.525,1.27) 36(-8.255,-1.27) 37(-6.985,1.27) 38(-5.715,-1.27) 39(-4.445,1.27) 40(-3.175,-1.27) 41(3.175,1.27) 42(4.445,-1.27) 43(5.715,1.27) 44(6.985,-1.27) 45(8.255,1.27) 46(9.525,-1.27) 47(10.795,1.27) 48(12.065,-1.27) 49(13.335,1.27) 50(14.605,-1.27) 51(15.875,1.27) 52(17.145,-1.27) 53(18.415,1.27) 54(19.685,-1.27) 55(20.955,1.27) 56(22.225,-1.27) 57(23.495,1.27) 58(24.765,-1.27) 59(26.035,1.27) 60(27.305,-1.27) 61(28.575,1.27) 62(29.845,-1.27) 63(31.115,1.27) 64(32.385,-1.27) 65(33.655,1.27) 66(34.925,-1.27) 67(36.195,1.27) 68(37.465,-1.27) 69(38.735,1.27) 70(40.005,-1.27) 71(41.275,1.27) 72(42.545,-1.27) 73(43.815,1.27) 74(45.085,-1.27) 75(46.355,1.27) 76(47.625,-1.27) 77(48.895,1.27) 78(50.165,-1.27) 79(51.435,1.27) 80(52.705,-1.27)
  round 2.48 hole 1.58: 81(-60.96,0)
  round 3.94 hole 2.44: 82(0,0) 83(60.96,0)
Top Overlay:
  lines w0.2: 57.265,3.5 -57.275,3.5 -57.275,11.92 -65.305,11.92 -65.305,-3.5 65.295,-3.5 65.295,11.92 ; 57.265,3.53 57.265,11.92 65.305,11.92
  text "1" at -52.955,3.975 h1.5
  text "40" at -4.425,-5.475 h1.5
  text "41" at 2.175,3.975 h1.5
  text "80" at 51.455,-5.475 h1.5

## SIMM1.27-3V72 [mm] "Connector; SIMM; 72 Position; Vertical"
height 14.74
pads (75):
  rect 1.6x1.6 hole 1.02: 1(-47.625,1.27)
  round 1.6 hole 1.02: 2(-46.355,-1.27) 3(-45.085,1.27) 4(-43.815,-1.27) 5(-42.545,1.27) 6(-41.275,-1.27) 7(-40.005,1.27) 8(-38.735,-1.27) 9(-37.465,1.27) 10(-36.195,-1.27) 11(-34.925,1.27) 12(-33.655,-1.27) 13(-32.385,1.27) 14(-31.115,-1.27) 15(-29.845,1.27) 16(-28.575,-1.27) 17(-27.305,1.27) 18(-26.035,-1.27) 19(-24.765,1.27) 20(-23.495,-1.27) 21(-22.225,1.27) 22(-20.955,-1.27) 23(-19.685,1.27) 24(-18.415,-1.27) 25(-17.145,1.27) 26(-15.875,-1.27) 27(-14.605,1.27) 28(-13.335,-1.27) 29(-12.065,1.27) 30(-10.795,-1.27) 31(-9.525,1.27) 32(-8.255,-1.27) 33(-6.985,1.27) 34(-5.715,-1.27) 35(-4.445,1.27) 36(-3.175,-1.27) 37(3.175,1.27) 38(4.445,-1.27) 39(5.715,1.27) 40(6.985,-1.27) 41(8.255,1.27) 42(9.525,-1.27) 43(10.795,1.27) 44(12.065,-1.27) 45(13.335,1.27) 46(14.605,-1.27) 47(15.875,1.27) 48(17.145,-1.27) 49(18.415,1.27) 50(19.685,-1.27) 51(20.955,1.27) 52(22.225,-1.27) 53(23.495,1.27) 54(24.765,-1.27) 55(26.035,1.27) 56(27.305,-1.27) 57(28.575,1.27) 58(29.845,-1.27) 59(31.115,1.27) 60(32.385,-1.27) 61(33.655,1.27) 62(34.925,-1.27) 63(36.195,1.27) 64(37.465,-1.27) 65(38.735,1.27) 66(40.005,-1.27) 67(41.275,1.27) 68(42.545,-1.27) 69(43.815,1.27) 70(45.085,-1.27) 71(46.355,1.27) 72(47.625,-1.27)
  round 3.4 hole 2.03: 73(-55.88,0)
  round 4.04 hole 2.44: 74(0,0) 75(55.88,0)
Top Overlay:
  lines w0.2: -59,-4.12 59,-4.12 59,4.12 -59,4.12 -59,-4.12
  text "1" at -47.875,4.595 h1.5
  text "36" at -4.425,-6.095 h1.5
  text "37" at 1.925,4.595 h1.5
  text "72" at 46.375,-6.095 h1.5

## SIMM1.27-3V72A [mm] "Connector; SIMM; 72 Position; Vertical"
height 14.61
pads (75):
  rect 1.6x1.6 hole 1.02: 1(-47.625,1.27)
  round 1.6 hole 1.02: 2(-46.355,-1.27) 3(-45.085,1.27) 4(-43.815,-1.27) 5(-42.545,1.27) 6(-41.275,-1.27) 7(-40.005,1.27) 8(-38.735,-1.27) 9(-37.465,1.27) 10(-36.195,-1.27) 11(-34.925,1.27) 12(-33.655,-1.27) 13(-32.385,1.27) 14(-31.115,-1.27) 15(-29.845,1.27) 16(-28.575,-1.27) 17(-27.305,1.27) 18(-26.035,-1.27) 19(-24.765,1.27) 20(-23.495,-1.27) 21(-22.225,1.27) 22(-20.955,-1.27) 23(-19.685,1.27) 24(-18.415,-1.27) 25(-17.145,1.27) 26(-15.875,-1.27) 27(-14.605,1.27) 28(-13.335,-1.27) 29(-12.065,1.27) 30(-10.795,-1.27) 31(-9.525,1.27) 32(-8.255,-1.27) 33(-6.985,1.27) 34(-5.715,-1.27) 35(-4.445,1.27) 36(-3.175,-1.27) 37(3.175,1.27) 38(4.445,-1.27) 39(5.715,1.27) 40(6.985,-1.27) 41(8.255,1.27) 42(9.525,-1.27) 43(10.795,1.27) 44(12.065,-1.27) 45(13.335,1.27) 46(14.605,-1.27) 47(15.875,1.27) 48(17.145,-1.27) 49(18.415,1.27) 50(19.685,-1.27) 51(20.955,1.27) 52(22.225,-1.27) 53(23.495,1.27) 54(24.765,-1.27) 55(26.035,1.27) 56(27.305,-1.27) 57(28.575,1.27) 58(29.845,-1.27) 59(31.115,1.27) 60(32.385,-1.27) 61(33.655,1.27) 62(34.925,-1.27) 63(36.195,1.27) 64(37.465,-1.27) 65(38.735,1.27) 66(40.005,-1.27) 67(41.275,1.27) 68(42.545,-1.27) 69(43.815,1.27) 70(45.085,-1.27) 71(46.355,1.27) 72(47.625,-1.27)
  round 2.6 hole 1.63: 73(-55.88,0) 74(0,0)
  round 4.1 hole 2.41: 75(55.88,0)
Top Overlay:
  lines w0.2: -59,-4.12 -59,4.12 59,4.12 59,-4.12 -59,-4.12
  text "72" at 46.375,-6.095 h1.5
  text "37" at 1.925,4.595 h1.5
  text "36" at -4.425,-6.095 h1.5
  text "1" at -47.875,4.595 h1.5

## SIMM1.27-3V80 [mm] "Connector; SIMM II; 80 Position; Vertical"
height 18.9
pads (83):
  rect 1.6x1.6 hole 0.99: 1(-52.705,1.27)
  round 1.6 hole 0.99: 2(-51.435,-1.27) 3(-50.165,1.27) 4(-48.895,-1.27) 5(-47.625,1.27) 6(-46.355,-1.27) 7(-45.085,1.27) 8(-43.815,-1.27) 9(-42.545,1.27) 10(-41.275,-1.27) 11(-40.005,1.27) 12(-38.735,-1.27) 13(-37.465,1.27) 14(-36.195,-1.27) 15(-34.925,1.27) 16(-33.655,-1.27) 17(-32.385,1.27) 18(-31.115,-1.27) 19(-29.845,1.27) 20(-28.575,-1.27) 21(-27.305,1.27) 22(-26.035,-1.27) 23(-24.765,1.27) 24(-23.495,-1.27) 25(-22.225,1.27) 26(-20.955,-1.27) 27(-19.685,1.27) 28(-18.415,-1.27) 29(-17.145,1.27) 30(-15.875,-1.27) 31(-14.605,1.27) 32(-13.335,-1.27) 33(-12.065,1.27) 34(-10.795,-1.27) 35(-9.525,1.27) 36(-8.255,-1.27) 37(-6.985,1.27) 38(-5.715,-1.27) 39(-4.445,1.27) 40(-3.175,-1.27) 41(3.175,1.27) 42(4.445,-1.27) 43(5.715,1.27) 44(6.985,-1.27) 45(8.255,1.27) 46(9.525,-1.27) 47(10.795,1.27) 48(12.065,-1.27) 49(13.335,1.27) 50(14.605,-1.27) 51(15.875,1.27) 52(17.145,-1.27) 53(18.415,1.27) 54(19.685,-1.27) 55(20.955,1.27) 56(22.225,-1.27) 57(23.495,1.27) 58(24.765,-1.27) 59(26.035,1.27) 60(27.305,-1.27) 61(28.575,1.27) 62(29.845,-1.27) 63(31.115,1.27) 64(32.385,-1.27) 65(33.655,1.27) 66(34.925,-1.27) 67(36.195,1.27) 68(37.465,-1.27) 69(38.735,1.27) 70(40.005,-1.27) 71(41.275,1.27) 72(42.545,-1.27) 73(43.815,1.27) 74(45.085,-1.27) 75(46.355,1.27) 76(47.625,-1.27) 77(48.895,1.27) 78(50.165,-1.27) 79(51.435,1.27) 80(52.705,-1.27)
  round 2.47 hole 1.57: 81(-60.96,0)
  round 3.94 hole 2.44: 82(0,0) 83(60.96,0)
Top Overlay:
  lines w0.2: -65.305,-3.5 65.295,-3.5 65.295,3.5 -65.305,3.5 -65.305,-3.5
  text "80" at 51.455,-5.475 h1.5
  text "41" at 2.175,3.975 h1.5
  text "40" at -4.425,-5.475 h1.5
  text "1" at -52.955,3.975 h1.5

## SIMM1.27-3V80A [mm] "Connector; SIMM; 80 Position; Vertical"
height 14.61
pads (83):
  rect 1.62x1.62 hole 1.02: 1(-52.705,1.27)
  round 1.62 hole 1.02: 2(-51.435,-1.27) 3(-50.165,1.27) 4(-48.895,-1.27) 5(-47.625,1.27) 6(-46.355,-1.27) 7(-45.085,1.27) 8(-43.815,-1.27) 9(-42.545,1.27) 10(-41.275,-1.27) 11(-40.005,1.27) 12(-38.735,-1.27) 13(-37.465,1.27) 14(-36.195,-1.27) 15(-34.925,1.27) 16(-33.655,-1.27) 17(-32.385,1.27) 18(-31.115,-1.27) 19(-29.845,1.27) 20(-28.575,-1.27) 21(-27.305,1.27) 22(-26.035,-1.27) 23(-24.765,1.27) 24(-23.495,-1.27) 25(-22.225,1.27) 26(-20.955,-1.27) 27(-19.685,1.27) 28(-18.415,-1.27) 29(-17.145,1.27) 30(-15.875,-1.27) 31(-14.605,1.27) 32(-13.335,-1.27) 33(-12.065,1.27) 34(-10.795,-1.27) 35(-9.525,1.27) 36(-8.255,-1.27) 37(-6.985,1.27) 38(-5.715,-1.27) 39(-4.445,1.27) 40(-3.175,-1.27) 41(3.175,1.27) 42(4.445,-1.27) 43(5.715,1.27) 44(6.985,-1.27) 45(8.255,1.27) 46(9.525,-1.27) 47(10.795,1.27) 48(12.065,-1.27) 49(13.335,1.27) 50(14.605,-1.27) 51(15.875,1.27) 52(17.145,-1.27) 53(18.415,1.27) 54(19.685,-1.27) 55(20.955,1.27) 56(22.225,-1.27) 57(23.495,1.27) 58(24.765,-1.27) 59(26.035,1.27) 60(27.305,-1.27) 61(28.575,1.27) 62(29.845,-1.27) 63(31.115,1.27) 64(32.385,-1.27) 65(33.655,1.27) 66(34.925,-1.27) 67(36.195,1.27) 68(37.465,-1.27) 69(38.735,1.27) 70(40.005,-1.27) 71(41.275,1.27) 72(42.545,-1.27) 73(43.815,1.27) 74(45.085,-1.27) 75(46.355,1.27) 76(47.625,-1.27) 77(48.895,1.27) 78(50.165,-1.27) 79(51.435,1.27) 80(52.705,-1.27)
  round 2.53 hole 1.63: 81(-60.96,0) 82(0,0)
  round 4 hole 2.41: 83(60.96,0)
Top Overlay:
  lines w0.2: -64,-3.7 64,-3.7 64,3.7 -64,3.7 -64,-3.7
  text "1" at -52.955,4.175 h1.5
  text "40" at -4.425,-5.675 h1.5
  text "41" at 2.175,4.175 h1.5
  text "80" at 51.455,-5.675 h1.5

## SIMM1.27-3V80B [mm] "Connector; SIMM; 80 Position; Vertical"
height 14.61
pads (83):
  rect 1.62x1.62 hole 1.02: 1(-52.705,1.27)
  round 1.62 hole 1.02: 2(-51.435,-1.27) 3(-50.165,1.27) 4(-48.895,-1.27) 5(-47.625,1.27) 6(-46.355,-1.27) 7(-45.085,1.27) 8(-43.815,-1.27) 9(-42.545,1.27) 10(-41.275,-1.27) 11(-40.005,1.27) 12(-38.735,-1.27) 13(-37.465,1.27) 14(-36.195,-1.27) 15(-34.925,1.27) 16(-33.655,-1.27) 17(-32.385,1.27) 18(-31.115,-1.27) 19(-29.845,1.27) 20(-28.575,-1.27) 21(-27.305,1.27) 22(-26.035,-1.27) 23(-24.765,1.27) 24(-23.495,-1.27) 25(-22.225,1.27) 26(-20.955,-1.27) 27(-19.685,1.27) 28(-18.415,-1.27) 29(-17.145,1.27) 30(-15.875,-1.27) 31(-14.605,1.27) 32(-13.335,-1.27) 33(-12.065,1.27) 34(-10.795,-1.27) 35(-9.525,1.27) 36(-8.255,-1.27) 37(-6.985,1.27) 38(-5.715,-1.27) 39(-4.445,1.27) 40(-3.175,-1.27) 41(3.175,1.27) 42(4.445,-1.27) 43(5.715,1.27) 44(6.985,-1.27) 45(8.255,1.27) 46(9.525,-1.27) 47(10.795,1.27) 48(12.065,-1.27) 49(13.335,1.27) 50(14.605,-1.27) 51(15.875,1.27) 52(17.145,-1.27) 53(18.415,1.27) 54(19.685,-1.27) 55(20.955,1.27) 56(22.225,-1.27) 57(23.495,1.27) 58(24.765,-1.27) 59(26.035,1.27) 60(27.305,-1.27) 61(28.575,1.27) 62(29.845,-1.27) 63(31.115,1.27) 64(32.385,-1.27) 65(33.655,1.27) 66(34.925,-1.27) 67(36.195,1.27) 68(37.465,-1.27) 69(38.735,1.27) 70(40.005,-1.27) 71(41.275,1.27) 72(42.545,-1.27) 73(43.815,1.27) 74(45.085,-1.27) 75(46.355,1.27) 76(47.625,-1.27) 77(48.895,1.27) 78(50.165,-1.27) 79(51.435,1.27) 80(52.705,-1.27)
  round 3.33 hole 2.03: 81(-60.96,0)
  round 4.04 hole 2.44: 82(0,0) 83(60.96,0)
Top Overlay:
  lines w0.2: -64,-3.7 64,-3.7 64,3.7 -64,3.7 -64,-3.7
  text "80" at 51.455,-5.675 h1.5
  text "41" at 2.175,4.175 h1.5
  text "40" at -4.425,-5.675 h1.5
  text "1" at -52.955,4.175 h1.5